# Altium footprint library Thornton_NEE.PcbLib: 2 footprints
Each footprint in its own frame and in the unit in brackets; x right, y up, seen from the top. Pads: shape width x height; smd on the part's side, far side on the other; paste and mask are expansions set on the pad; w line width, h text height; cw(c..) or ccw(c..) is an arc to the next point about the centre after c.
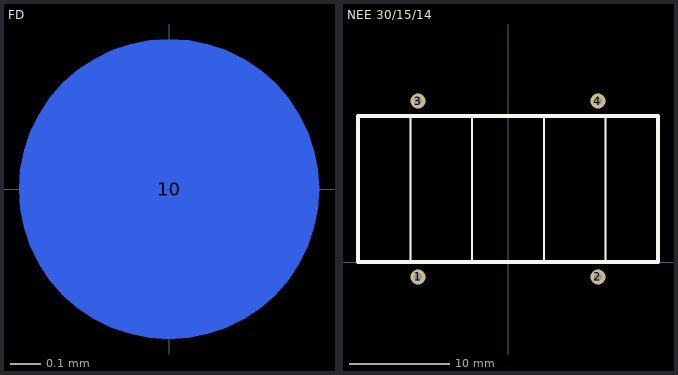
[diagram p0: the footprints below, top view; thin cyan lines are the x and y axes]

## FD [mm]
pads (1):
  round 1 smd far side: 10(0,0)
Bottom Overlay:
  text "<= FD" at 0.762,-0.508 h1.52

## NEE 30/15/14 [mil] "ferrite core"
pads (4):
  round 60 hole 30: 1(-354.33,-59.06) 2(354.33,-59.06) 3(-354.33,633.86) 4(354.33,633.86)
Top Overlay:
  lines w7.87: -383.86,0 -383.86,574.8 ; -141.73,0 -141.73,574.8 ; 141.73,0 141.73,574.8 ; 383.86,0 383.86,574.8
  lines w15.75: -590.55,0 -590.55,574.8 590.55,574.8 590.55,0 -590.55,0